# EAGLE library part AT-SOM-EVAL-BOARD-V0.3_LP5910 (library TRACKER SOM EVAL BOARD v1.0)
3.5V to 28V Input, 5A, 570kHz Step-Down Converter with Eco-mode Source: Datasheet <http://www.ti.com/lit/gpn/tps54531>
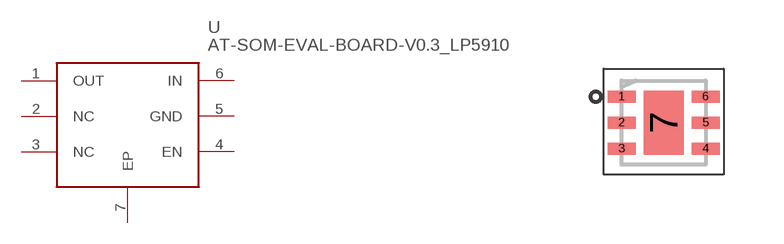
[diagram p4: symbol with the pads of AT-SOM-EVAL-BOARD-V0.3_QFN6P; footprint AT-SOM-EVAL-BOARD-V0.3_QFN6P]

Designator prefix U

## AT-SOM-EVAL-BOARD-V0.3_LP5910  [AT-SOM-EVAL-BOARD-V0.3_QFN6P]
1  OUT
2  NC
3  NC
4  EN
5  GND
6  IN
7  EP

## Footprint AT-SOM-EVAL-BOARD-V0.3_QFN6P (pad centres in mm)
QFN-20
smd 0.7 x 0.3: 1 -1.05,0.65; 2 -1.05,0; 3 -1.05,-0.65; 4 1.05,-0.65; 5 1.05,0; 6 1.05,0.65
smd 1 x 1.6: 7 0,0